# Altium schematic symbol library sai.SchLib: 2 symbols
Pins are listed as number, name and electrical type; pins without a type are passive.

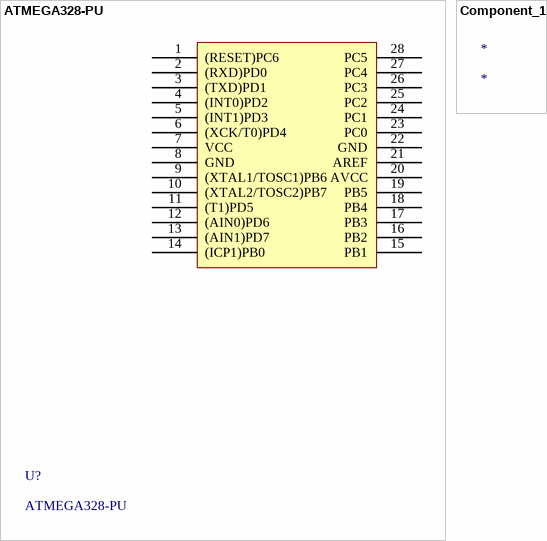
[diagram p0: symbols ATMEGA328-PU to Component_1]

## ATMEGA328-PU
designator U?
Manufacturer: Microchip; Supplier 1: Digi-Key; Manufacturer Part Number: ATMEGA328-PU; Stock 1: 2922; Pricing 1: 1=1.96, 25=1.7924, 100=1.6274 (USD); Supplier Part Number 1: ATMEGA328-PU-ND
pins: 1 (RESET)PC6, 2 (RXD)PD0, 3 (TXD)PD1, 4 (INT0)PD2, 5 (INT1)PD3, 6 (XCK/T0)PD4, 7 VCC, 8 GND, 9 (XTAL1/TOSC1)PB6, 10 (XTAL2/TOSC2)PB7, 11 (T1)PD5, 12 (AIN0)PD6, 13 (AIN1)PD7, 14 (ICP1)PB0, 15 PB1, 16 PB2, 17 PB3, 18 PB4, 19 PB5, 20 AVCC, 21 AREF, 22 GND, 23 PC0, 24 PC1, 25 PC2, 26 PC3, 27 PC4, 28 PC5

## Component_1
designator *